# Altium footprint library LDO.PcbLib: 3 footprints
Each footprint in its own frame and in the unit in brackets; x right, y up, seen from the top. Pads: shape width x height; smd on the part's side, far side on the other; paste and mask are expansions set on the pad; w line width, h text height; cw(c..) or ccw(c..) is an arc to the next point about the centre after c.
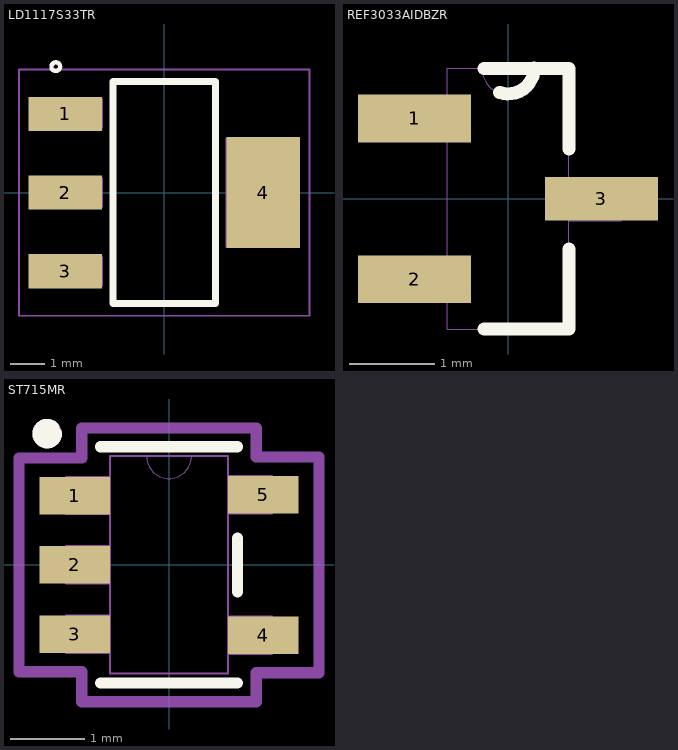
[diagram p0: the footprints below, top view; thin cyan lines are the x and y axes]

## LD1117S33TR [mm] "Linear Voltage Regulator IC Positive Fixed 1 Output 800mA SOT-223"
pads (4):
  rect 2.15x1 smd: 1(-2.9,2.3) 2(-2.9,0) 3(-2.9,-2.3)
  rect 2.15x3.25 smd: 4(2.9,0)
Top Overlay:
  circle w0.127: c-3.175,3.683 r0.127
  lines w0.203: -1.5,-3.25 1.5,-3.25 1.5,3.25 -1.5,3.25 -1.5,-3.25
Mechanical 13:
  region: 3.66,-1.6 1.804,-1.6 1.804,1.598 3.66,1.598
  region: -1.804,-0.433 -3.659,-0.433 -3.659,0.433 -1.804,0.433
  region: -1.807,1.878 -3.659,1.878 -3.659,2.746 -1.807,2.746
  region: -1.803,-2.746 -3.66,-2.746 -3.66,-1.88 -1.803,-1.88
  region: 3.659,-1.6 1.804,-1.6 1.804,1.599 3.659,1.599
  region: -1.805,-0.435 -3.661,-0.435 -3.661,0.434 -1.805,0.434
  region: -1.805,1.879 -3.658,1.879 -3.658,2.745 -1.805,2.745
  region: -1.803,-2.744 -3.658,-2.744 -3.658,-1.88 -1.803,-1.88
Mechanical 15:
  lines w0.05: -4.25,-3.6 4.25,-3.6 4.25,3.6 -4.25,3.6 -4.25,-3.6
3D body "step_temp.STEP": height 1.8, standoff 0, extent -3.25,-3.499 3.25,3.499

## REF3033AIDBZR [mil] "3.3-V voltage reference;   50-ppm/°C, 50-µA in 3-pin SOT-23 package series (bandgap)"
pads (3):
  rect 52x22 smd: 1(-43,37) 2(-43,-37)
  rect 52x20 smd: 3(43,0)
Top Overlay:
  lines w6: -11,-60 28,-60 28,-23 ; -11,60 12,60 28,60 28,23 ; -3.9,48.96 ccw(c0.15,60.1) 12,60.1
Mechanical 13:
  lines w0: -28,-47 -28,-60 28,-60 28,-10 ; -28,-47 -28,-28 ; -28,-47 -52,-47 -52,-28 -28,-28 ; -28,-28 -28,28 ; -28,28 -28,47 ; -28,28 -52,28 -52,47 -28,47 ; -28,47 -28,60 -12,60 ; -12,60 ccw(c0,60) 12,60 ; -12,60 12,60 ; 12,60 28,60 28,10 ; 28,-10 28,10 ; 28,-10 52,-10 52,10 28,10
3D body "step_temp.STEP": height 44.09, standoff 0, extent -46.65,-57.48 46.65,57.48

## ST715MR [mil] "Linear Voltage Regulator IC Positive Adjustable 1 Output 85mA SOT-23-5"
pads (5):
  rect 37.5x20 smd paste+0 mask+0: 1(-50.25,37) 2(-50.25,0) 3(-50.25,-37) 4(50.25,-37.5) 5(50.25,37.5)
Top Overlay:
  lines w6: -36.5,-63 36.5,-63 ; -36.5,63 36.5,63 ; 36.5,-14.4 36.5,14.4
  lines w7.87: -62.44,72.99 ccw(c-65,70) -61.06,70
Mechanical 13:
  circle w7.87: c-65,70 r3.94
  lines w0: -12,58 ccw(c0,58) 12,58
  lines w1: -55,-47 -31.5,-47 -31.5,-27 -55,-27 -55,-47 ; -55,-10 -31.5,-10 -31.5,10 -55,10 -55,-10 ; -55,27 -31.5,27 -31.5,47 -55,47 -55,27 ; -31.5,-58 -31.5,58 31.5,58 31.5,-58 -31.5,-58 ; 31.5,-47.5 55,-47.5 55,-27.5 31.5,-27.5 31.5,-47.5 ; 31.5,27.5 55,27.5 55,47.5 31.5,47.5 31.5,27.5
Mechanical 15:
  lines w6: -80,-57 -80,57 -46.5,57 -46.5,73 46.5,73 46.5,57.5 80,57.5 80,-57.5 46.5,-57.5 46.5,-73 -46.5,-73 -46.5,-57 -80,-57
3D body "SOT_715MR_STM.step": height 57.09, standoff 0, extent -55,-57.99 55,57.99